# EAGLE library part NINA-W106 (library HPG_Solution_v1.0)
u-blox NINA-W106 ESP32 WiFi/BLE module
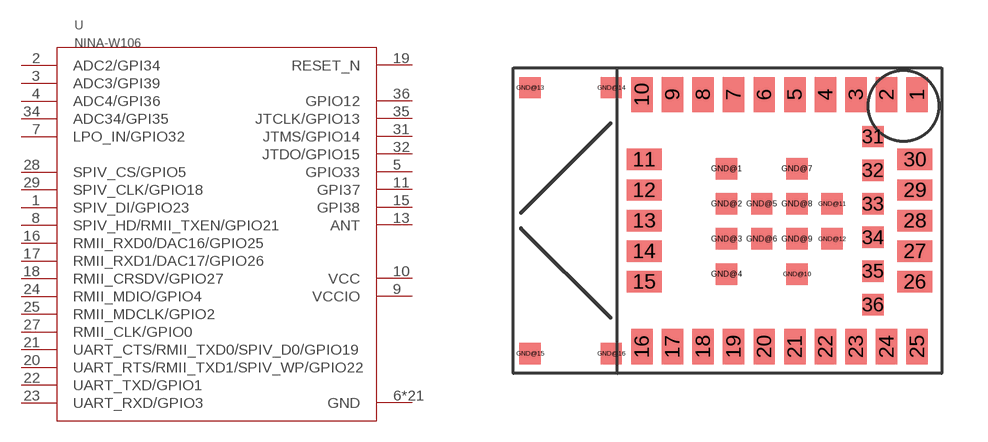
[diagram p2: symbol with the pads of NINA-W106; footprint NINA-W106]

Designator prefix U

## NINA-W106NINA-W106, NINA-W106-106NINA-W106 (DATASHEET: https://www.u-blox.com/sites/default/files/NINA-W1_DataSheet_%28UBX-17006694%29.pdf; DISTRIBUTOR-LINK: https://www.digikey.com/en/products/detail/u-blox/NINA-W106-00B/13143431; DISTRIBUTOR-PN: 672-NINA-W106-00BTR-ND; MANUFACTURER: u-blox; MANUFACTURER-PN: NINA-W106; VALUE: NINA-W106)  [NINA-W106]
1  SPIV_DI/GPIO23
2  ADC2/GPI34
3  ADC3/GPI39
4  ADC4/GPI36
5  GPIO33
6  GND
7  LPO_IN/GPIO32
8  SPIV_HD/RMII_TXEN/GPIO21
9  VCCIO
10  VCC
11  GPI37
12  GND
13  ANT
14  GND
15  GPI38
16  RMII_RXD0/DAC16/GPIO25
17  RMII_RXD1/DAC17/GPIO26
18  RMII_CRSDV/GPIO27
19  RESET_N
20  UART_RTS/RMII_TXD1/SPIV_WP/GPIO22
21  UART_CTS/RMII_TXD0/SPIV_D0/GPIO19
22  UART_TXD/GPIO1
23  UART_RXD/GPIO3
24  RMII_MDIO/GPIO4
25  RMII_MDCLK/GPIO2
26  GND
27  RMII_CLK/GPIO0
28  SPIV_CS/GPIO5
29  SPIV_CLK/GPIO18
30  GND
31  JTMS/GPIO14
32  JTDO/GPIO15
34  ADC34/GPI35
35  JTCLK/GPIO13
36  GPIO12
GND@1  GND
GND@2  GND
GND@3  GND
GND@4  GND
GND@5  GND
GND@6  GND
GND@7  GND
GND@8  GND
GND@9  GND
GND@10  GND
GND@11  GND
GND@12  GND
GND@13  GND
GND@14  GND
GND@15  GND
GND@16  GND

## Footprint NINA-W106 (pad centres in mm)
smd 0.7 x 1.15: 1 4.95,4.125; 2 3.95,4.125; 3 2.95,4.125; 4 1.95,4.125; 5 0.95,4.125; 6 -0.05,4.125; 7 -1.05,4.125; 8 -2.05,4.125; 9 -3.05,4.125; 10 -4.05,4.125; 16 -4.05,-4.125; 17 -3.05,-4.125; 18 -2.05,-4.125; 19 -1.05,-4.125; 20 -0.05,-4.125; 21 0.95,-4.125; 22 1.95,-4.125; 23 2.95,-4.125; 24 3.95,-4.125; 25 4.95,-4.125
smd 1.15 x 0.7: 11 -3.975,2; 12 -3.975,1; 13 -3.975,0; 14 -3.975,-1; 15 -3.975,-2; 26 4.875,-2; 27 4.875,-1; 28 4.875,0; 29 4.875,1; 30 4.875,2
smd 0.7 x 0.7: 31 3.5,2.75; 32 3.5,1.65; 33 3.5,0.55; 34 3.5,-0.55; 35 3.5,-1.65; 36 3.5,-2.75; GND@1 -1.28,1.7; GND@2 -1.28,0.55; GND@3 -1.28,-0.6; GND@4 -1.28,-1.75; GND@5 -0.13,0.55; GND@6 -0.13,-0.6; GND@7 1.02,1.7; GND@8 1.02,0.55; GND@9 1.02,-0.6; GND@10 1.02,-1.75; GND@11 2.17,0.55; GND@12 2.17,-0.6; GND@13 -7.7,4.35; GND@14 -5.05,4.35; GND@15 -7.7,-4.35; GND@16 -5.05,-4.35